# EAGLE library part 416131160810 (library Switches_rev16a)
WS-HP-1.27 mm small compact SMD Dip Switch with top tape,20 pins,10 poles
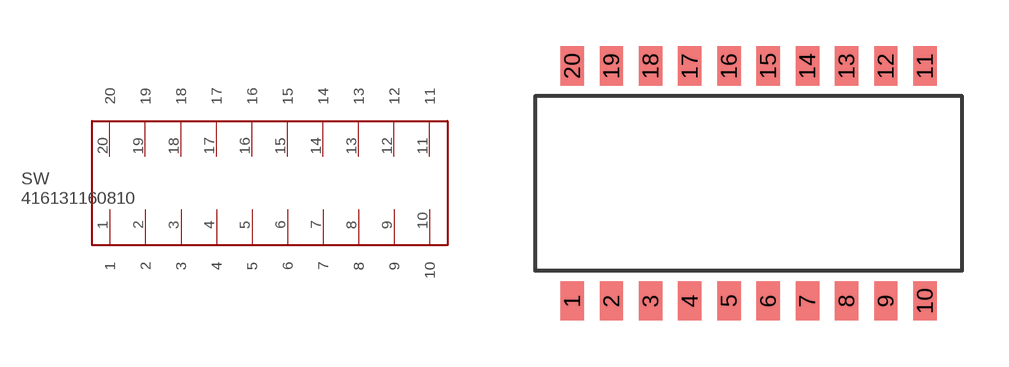
[diagram p29: symbol with the pads of 416131160810; footprint 416131160810]

Designator prefix SW

## 416131160810  [416131160810]
1  1
2  2
3  3
4  4
5  5
6  6
7  7
8  8
9  9
10  10
11  11
12  12
13  13
14  14
15  15
16  16
17  17
18  18
19  19
20  20

## Footprint 416131160810 (pad centres in mm)
WS-HP-1.27 mm small compact SMD Dip Switch with top tape,20 pins,10 poles
smd 0.76 x 1.27: 1 -5.715,-3.81; 2 -4.445,-3.81; 3 -3.175,-3.81; 4 -1.905,-3.81; 5 -0.635,-3.81; 6 0.635,-3.81; 7 1.905,-3.81; 8 3.175,-3.81; 9 4.445,-3.81; 10 5.715,-3.81; 11 5.715,3.81; 12 4.445,3.81; 13 3.175,3.81; 14 1.905,3.81; 15 0.635,3.81; 16 -0.635,3.81; 17 -1.905,3.81; 18 -3.175,3.81; 19 -4.445,3.81; 20 -5.715,3.81